# Altium footprint library TE_6437288-6.PcbLib: 1 footprints
Each footprint in its own frame and in the unit in brackets; x right, y up, seen from the top. Pads: shape width x height; smd on the part's side, far side on the other; paste and mask are expansions set on the pad; w line width, h text height; cw(c..) or ccw(c..) is an arc to the next point about the centre after c.
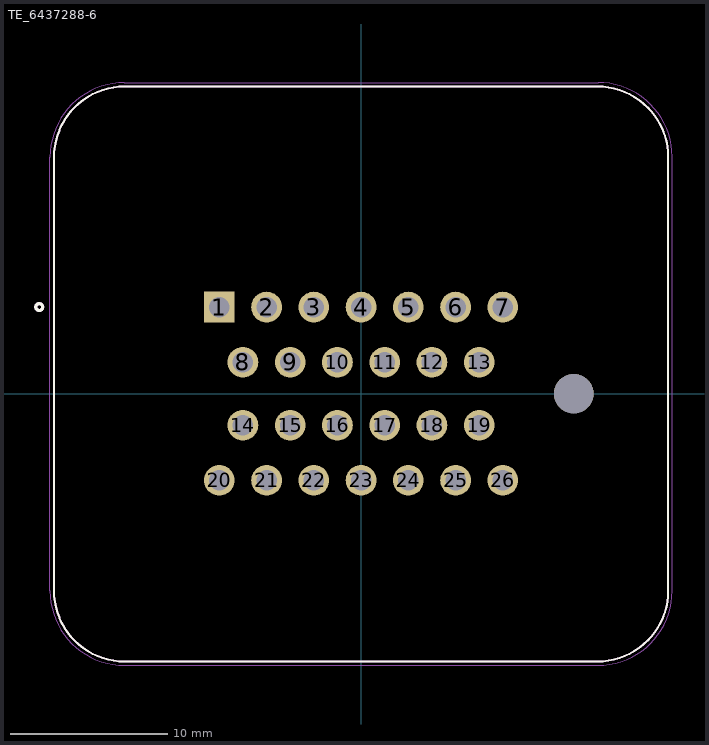
[diagram p0: the footprint, top view; thin cyan lines are the x and y axes]

## TE_6437288-6 [mm]
pads (27):
  rect 1.95x1.95 / inner round 1.95 / far side rect 1.95x1.95 hole 1.3: 1(-9,5.5)
  round 1.95 hole 1.3: 2(-6,5.5) 3(-3,5.5) 4(0,5.5) 5(3,5.5) 6(6,5.5) 7(9,5.5) 8(-7.5,2) 9(-4.5,2) 10(-1.5,2) 11(1.5,2) 12(4.5,2) 13(7.5,2) 14(-7.5,-2) 15(-4.5,-2) 16(-1.5,-2) 17(1.5,-2) 18(4.5,-2) 19(7.5,-2) 20(-9,-5.5) 21(-6,-5.5) 22(-3,-5.5) 23(0,-5.5) 24(3,-5.5) 25(6,-5.5) 26(9,-5.5)
  round 2.5 hole 2.5 unplated: ""(13.5,0)
Top Overlay:
  circle w0.203: c-20.43,5.5 r0.218
  lines w0.127: -19.5,-12.5 ccw(c-15,-12.5) -15,-17 15,-17 ccw(c15,-12.5) 19.5,-12.5 19.5,15 ccw(c15,15) 15,19.5 -15,19.5 ccw(c-15,15) -19.5,15 -19.5,-12.5
Mechanical 13:
  circle w0.203: c-20.43,5.5 r0.218
  lines w0.127: -19.5,-12.5 ccw(c-15,-12.5) -15,-17 15,-17 ccw(c15,-12.5) 19.5,-12.5 19.5,15 ccw(c15,15) 15,19.5 -15,19.5 ccw(c-15,15) -19.5,15 -19.5,-12.5
Mechanical 15:
  lines w0.05: -19.75,-12.525 ccw(c-15.025,-12.525) -15.025,-17.25 ; -19.75,-12.5 -19.75,15 ; -19.75,15.025 cw(c-15.025,15.025) -15.025,19.75 ; -15.05,-17.25 15.05,-17.25 ; -15.05,19.75 15.05,19.75 cw(c15.05,15.05) 19.75,15.05 19.75,-12.5 ; 15.025,-17.25 ccw(c15.025,-12.525) 19.75,-12.525
3D body "step_temp.STEP": height 19.5, standoff -17, extent -19.5,-19.6 19.5,9.6